# EAGLE library part USB-MICROB (library quad)
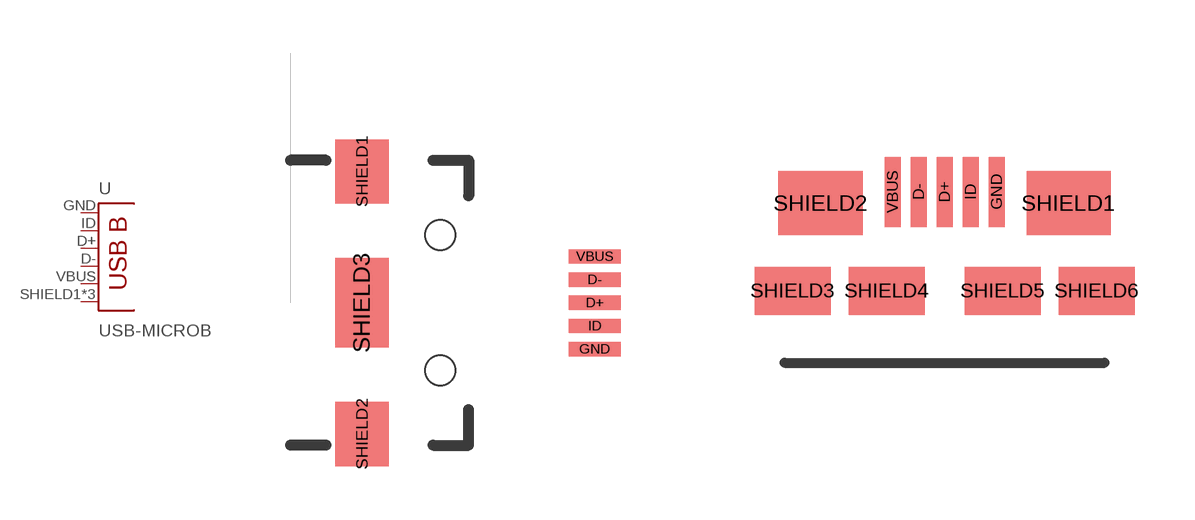
[diagram p4: symbol with the pads of USB-B-MICRO-SMD_V03; footprints USB-B-MICRO-SMD_V03, USB-B-MICRO-SMD]

Designator prefix -

## USB-MICROB" (PROD_ID: CONN-11752)  [USB-B-MICRO-SMD_V03]
D+  D+
D-  D-
GND  GND
ID  USBID
SHIELD1  SHIELD
SHIELD2  SHIELD
SHIELD3  SHIELD
VBUS  VBUS

## USB-MICROB  [USB-B-MICRO-SMD]
D+  D+
D-  D-
GND  GND
ID  USBID
SHIELD1  SHIELD
SHIELD2  SHIELD
SHIELD3  SHIELD
SHIELD4  SHIELD
SHIELD5  SHIELD
SHIELD6  SHIELD
VBUS  VBUS

## Footprint USB-B-MICRO-SMD_V03 (pad centres in mm)
smd 1.45 x 0.4: D+ 6.535,0; D- 6.535,0.65; GND 6.535,-1.3; ID 6.535,-0.65; VBUS 6.535,1.3
smd 1.5 x 1.8: SHIELD1 0,3.685; SHIELD2 0,-3.685
smd 1.5 x 2.5: SHIELD3 0,0
hole 0.85 at 2.2,1.9
hole 0.85 at 2.2,-1.9

## Footprint USB-B-MICRO-SMD (pad centres in mm)
smd 0.4 x 1.75: D+ 0,2.825; D- -0.65,2.825; GND 1.3,2.825; ID 0.65,2.825; VBUS -1.3,2.825
smd 2.1 x 1.6: SHIELD1 3.1,2.55; SHIELD2 -3.1,2.55
smd 1.9 x 1.2: SHIELD3 -3.8,0.35; SHIELD4 -1.45,0.35; SHIELD5 1.45,0.35; SHIELD6 3.8,0.35